# EAGLE library part BQ7694204PFBR (library BQ7694204PFBR)
Battery Management 3-series to 10-series multicell battery monitor and protector Source: Datasheet <https://www.ti.com/lit/gpn/bq76942>
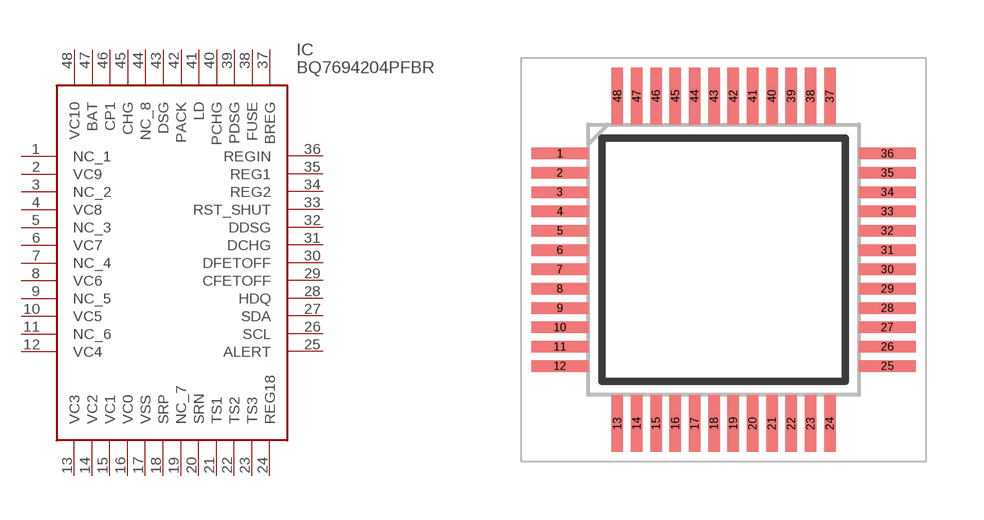
[diagram p0: symbol with the pads of QFP50P900X900X120-48N; footprint QFP50P900X900X120-48N]

Designator prefix IC

## BQ7694204PFBR (Description: Battery Management 3-series to 10-series multicell battery monitor and protector; Height: 1.2mm; Manufacturer_Name: Texas Instruments; Manufacturer_Part_Number: BQ7694204PFBR; Mouser_Part_Number: 595-BQ7694204PFBR; Mouser_Price-Stock: https://www.mouser.co.uk/ProductDetail/Texas-Instruments/BQ7694204PFBR?qs=iLbezkQI%252BsiBKz1%2FTSC4wg%3D%3D)  [QFP50P900X900X120-48N]
1  NC_1
2  VC9
3  NC_2
4  VC8
5  NC_3
6  VC7
7  NC_4
8  VC6
9  NC_5
10  VC5
11  NC_6
12  VC4
13  VC3
14  VC2
15  VC1
16  VC0
17  VSS
18  SRP
19  NC_7
20  SRN
21  TS1
22  TS2
23  TS3
24  REG18
25  ALERT
26  SCL
27  SDA
28  HDQ
29  CFETOFF
30  DFETOFF
31  DCHG
32  DDSG
33  RST_SHUT
34  REG2
35  REG1
36  REGIN
37  BREG
38  FUSE
39  PDSG
40  PCHG
41  LD
42  PACK
43  DSG
44  NC_8
45  CHG
46  CP1
47  BAT
48  VC10

## Footprint QFP50P900X900X120-48N (pad centres in mm)
PFB (S-PQFP-G48
smd 1.475 x 0.3: 1 -4.238,2.75; 2 -4.238,2.25; 3 -4.238,1.75; 4 -4.238,1.25; 5 -4.238,0.75; 6 -4.238,0.25; 7 -4.238,-0.25; 8 -4.238,-0.75; 9 -4.238,-1.25; 10 -4.238,-1.75; 11 -4.238,-2.25; 12 -4.238,-2.75; 25 4.238,-2.75; 26 4.238,-2.25; 27 4.238,-1.75; 28 4.238,-1.25; 29 4.238,-0.75; 30 4.238,-0.25; 31 4.238,0.25; 32 4.238,0.75; 33 4.238,1.25; 34 4.238,1.75; 35 4.238,2.25; 36 4.238,2.75
smd 0.3 x 1.475: 13 -2.75,-4.238; 14 -2.25,-4.238; 15 -1.75,-4.238; 16 -1.25,-4.238; 17 -0.75,-4.238; 18 -0.25,-4.238; 19 0.25,-4.238; 20 0.75,-4.238; 21 1.25,-4.238; 22 1.75,-4.238; 23 2.25,-4.238; 24 2.75,-4.238; 37 2.75,4.238; 38 2.25,4.238; 39 1.75,4.238; 40 1.25,4.238; 41 0.75,4.238; 42 0.25,4.238; 43 -0.25,4.238; 44 -0.75,4.238; 45 -1.25,4.238; 46 -1.75,4.238; 47 -2.25,4.238; 48 -2.75,4.238